# Altium schematic symbol library CON4.SchLib: 1 symbol
Pins are listed as number, name and electrical type; pins without a type are passive.

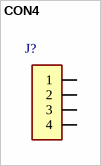
[diagram p0: symbol CON4]

## CON4
designator J?, comment 292230-4  (value not drawn)
ID: 292230-4; PDF: http://www.te.com/commerce/DocumentDelivery/DDEController?Action=srchrtrv&DocNm=292230&DocType=Customer+Drawing&DocLang=English; PRICE: 0.63000; BUY_LINK: http://www.digikey.com/product-detail/en/292230-4/A98709CT-ND/1855503
footprint 4PIN
pins: 1, 2, 3, 4